# EAGLE library part SAMTEC-T1M-10-RECEPTACLE (library bc-connectors)
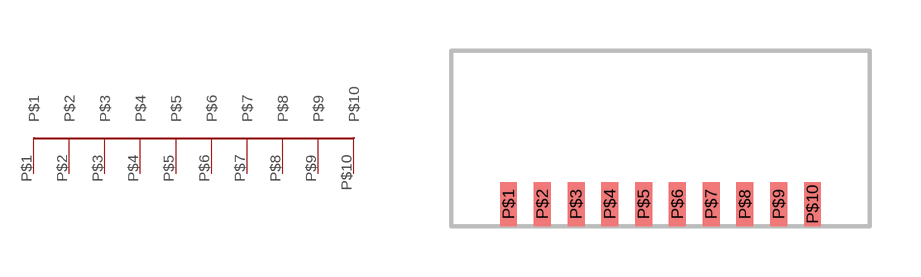
[diagram p3: symbol with the pads of SAMTEC-T1M-10-RECEPTACLE; footprint SAMTEC-T1M-10-RECEPTACLE]

Designator prefix -

## SAMTEC-T1M-10-RECEPTACLE  [SAMTEC-T1M-10-RECEPTACLE]
P$1  P$1
P$2  P$2
P$3  P$3
P$4  P$4
P$5  P$5
P$6  P$6
P$7  P$7
P$8  P$8
P$9  P$9
P$10  P$10

## Footprint SAMTEC-T1M-10-RECEPTACLE (pad centres in mm)
smd 0.5 x 1.3: P$1 -4.5,0; P$2 -3.5,0; P$3 -2.5,0; P$4 -1.5,0; P$5 -0.5,0; P$6 0.5,0; P$7 1.5,0; P$8 2.5,0; P$9 3.5,0; P$10 4.5,0